# EAGLE library part AD8221 (library afc-smm)
Precision Instrumentation Amplifier
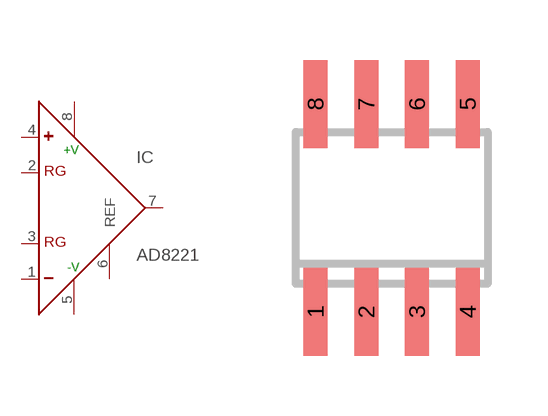
[diagram p0: symbol with the pads of SO8; footprint SO8]

Designator prefix IC

## AD8221R (MPN: AD8221; OC_FARNELL: 1464424; OC_NEWARK: 05F7109)  [SO8]
1  -  in
2  RG  pas
3  RG  pas
4  +  in
5  -V  pwr
6  REF  pas
7  OUT  out
8  +V  pwr

## Footprint SO8 (pad centres in mm)
SMALL OUTLINE INTEGRATED CIRCUIT
smd 0.6 x 2.2: 1 -1.905,-2.6; 2 -0.635,-2.6; 3 0.635,-2.6; 4 1.905,-2.6; 5 1.905,2.6; 6 0.635,2.6; 7 -0.635,2.6; 8 -1.905,2.6